# Altium integrated library Altium_WCAP-ASLI (rev22d).IntLib: 142 symbols (part 2 of 3)
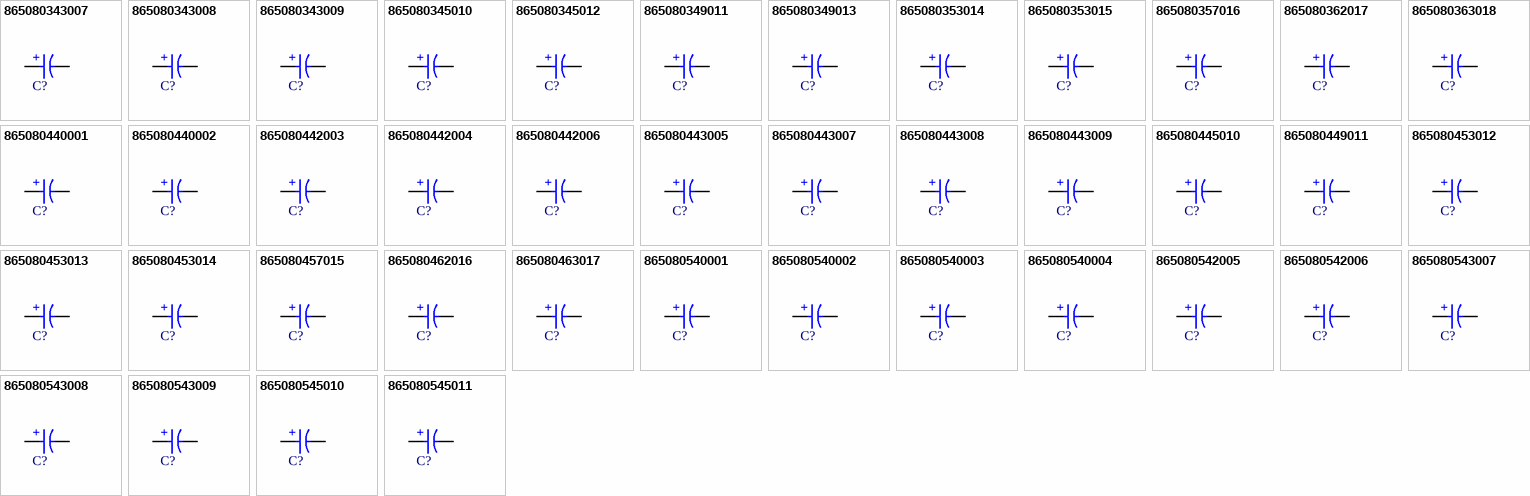
[diagram p4: symbols 865080343007 to 865080545011]

## 865080363018
designator C?, comment 3300uF  (value not drawn)
WCAP-ASLI Aluminum Electrolytic Capacitor, V-Chip, D16 x H17mm, 3300uF, 16V; Manufacturer Part Number: 865080363018; Manufacturer: Wurth Elektronik; Capacitance Tolerance: +/-20%; Dissipation Factor: 20%; Endurance: 5000h; Leakage Current: 528uA; Ripple Current: 1250mA; Technical Reference: ASEK170332M016DVCTHE000; Category: Aluminum Electrolytic Capacitors; Match Code: WCAP-ASLI; ComponentLink1Description: Website Link; ComponentLink1URL: https://www.we-online.com/redexpert/article/865080363018?ad; ComponentLink2Description: Datasheet Link; ComponentLink2URL: https://www.we-online.com/redexpert/spec/865080363018?ad; Mount: Surface Mount; Operating Temperature Max: 105°C; Operating Temperature Min: -55°C; Packaging: Tape and Reel; Height: 17mm; Diameter: 16mm; Capacitance: 3300uF; Rated Voltage (DC): 16V
footprint WCAP-ASLI_D16H17
simulation model 865080363018_3.3mF
pins: 1 P, 2 N
text: +

## 865080440001
designator C?, comment 6.8uF  (value not drawn)
WCAP-ASLI Aluminum Electrolytic Capacitor, V-Chip, D4 x H5.5mm, 6.8uF, 25V; Manufacturer Part Number: 865080440001; Manufacturer: Wurth Elektronik; Capacitance Tolerance: +/-20%; Dissipation Factor: 14%; Endurance: 2000h; Leakage Current: 3uA; Ripple Current: 70mA; Technical Reference: ASEB0556R8M025DVCTAB000; Category: Aluminum Electrolytic Capacitors; Match Code: WCAP-ASLI; ComponentLink1Description: Website Link; ComponentLink1URL: https://www.we-online.com/redexpert/article/865080440001?ad; ComponentLink2Description: Datasheet Link; ComponentLink2URL: https://www.we-online.com/redexpert/spec/865080440001?ad; Mount: Surface Mount; Operating Temperature Max: 105°C; Operating Temperature Min: -55°C; Packaging: Tape and Reel; Height: 5.5mm; Diameter: 4mm; Capacitance: 6.8uF; Rated Voltage (DC): 25V
footprint WCAP-ASLI_D4H5.5
simulation model 865080440001_6.8uF
pins: 1 P, 2 N
text: +

## 865080440002
designator C?, comment 10uF  (value not drawn)
WCAP-ASLI Aluminum Electrolytic Capacitor, V-Chip, D4 x H5.5mm, 10uF, 25V; Manufacturer Part Number: 865080440002; Manufacturer: Wurth Elektronik; Capacitance Tolerance: +/-20%; Dissipation Factor: 14%; Endurance: 2000h; Leakage Current: 3uA; Ripple Current: 85mA; Technical Reference: ASEB055100M025DVCTAB000; Category: Aluminum Electrolytic Capacitors; Match Code: WCAP-ASLI; ComponentLink1Description: Website Link; ComponentLink1URL: https://www.we-online.com/redexpert/article/865080440002?ad; ComponentLink2Description: Datasheet Link; ComponentLink2URL: https://www.we-online.com/redexpert/spec/865080440002?ad; Mount: Surface Mount; Operating Temperature Max: 105°C; Operating Temperature Min: -55°C; Packaging: Tape and Reel; Height: 5.5mm; Diameter: 4mm; Capacitance: 10uF; Rated Voltage (DC): 25V
footprint WCAP-ASLI_D4H5.5
simulation model 865080440002_10uF
pins: 1 P, 2 N
text: +

## 865080442003
designator C?, comment 15uF  (value not drawn)
WCAP-ASLI Aluminum Electrolytic Capacitor, V-Chip, D5 x H5.5mm, 15uF, 25V; Manufacturer Part Number: 865080442003; Manufacturer: Wurth Elektronik; Capacitance Tolerance: +/-20%; Dissipation Factor: 14%; Endurance: 2000h; Leakage Current: 3.75uA; Ripple Current: 125mA; Technical Reference: ASEC055150M025DVCTBB000; Category: Aluminum Electrolytic Capacitors; Match Code: WCAP-ASLI; ComponentLink1Description: Website Link; ComponentLink1URL: https://www.we-online.com/redexpert/article/865080442003?ad; ComponentLink2Description: Datasheet Link; ComponentLink2URL: https://www.we-online.com/redexpert/spec/865080442003?ad; Mount: Surface Mount; Operating Temperature Max: 105°C; Operating Temperature Min: -55°C; Packaging: Tape and Reel; Height: 5.5mm; Diameter: 5mm; Capacitance: 15uF; Rated Voltage (DC): 25V
footprint WCAP-ASLI_D5H5.5
simulation model 865080442003_15uF
pins: 1 P, 2 N
text: +

## 865080442004
designator C?, comment 22uF  (value not drawn)
WCAP-ASLI Aluminum Electrolytic Capacitor, V-Chip, D5 x H5.5mm, 22uF, 25V; Manufacturer Part Number: 865080442004; Manufacturer: Wurth Elektronik; Capacitance Tolerance: +/-20%; Dissipation Factor: 14%; Endurance: 2000h; Leakage Current: 5.5uA; Ripple Current: 145mA; Technical Reference: ASEC055220M025DVCTBB000; Category: Aluminum Electrolytic Capacitors; Match Code: WCAP-ASLI; ComponentLink1Description: Website Link; ComponentLink1URL: https://www.we-online.com/redexpert/article/865080442004?ad; ComponentLink2Description: Datasheet Link; ComponentLink2URL: https://www.we-online.com/redexpert/spec/865080442004?ad; Mount: Surface Mount; Operating Temperature Max: 105°C; Operating Temperature Min: -55°C; Packaging: Tape and Reel; Height: 5.5mm; Diameter: 5mm; Capacitance: 22uF; Rated Voltage (DC): 25V
footprint WCAP-ASLI_D5H5.5
simulation model 865080442004_22uF
pins: 1 P, 2 N
text: +

## 865080442006
designator C?, comment 33uF  (value not drawn)
WCAP-ASLI Aluminum Electrolytic Capacitor, V-Chip, D5 x H5.5mm, 33uF, 25V; Manufacturer Part Number: 865080442006; Manufacturer: Wurth Elektronik; Capacitance Tolerance: +/-20%; Dissipation Factor: 14%; Endurance: 2000h; Leakage Current: 8.25uA; Ripple Current: 160mA; Technical Reference: ASEC055330M025DVCTBB000; Category: Aluminum Electrolytic Capacitors; Match Code: WCAP-ASLI; ComponentLink1Description: Website Link; ComponentLink1URL: https://www.we-online.com/redexpert/article/865080442006?ad; ComponentLink2Description: Datasheet Link; ComponentLink2URL: https://www.we-online.com/redexpert/spec/865080442006?ad; Mount: Surface Mount; Operating Temperature Max: 105°C; Operating Temperature Min: -55°C; Packaging: Tape and Reel; Height: 5.5mm; Diameter: 5mm; Capacitance: 33uF; Rated Voltage (DC): 25V
footprint WCAP-ASLI_D5H5.5
simulation model 865080442006_33uF
pins: 1 P, 2 N
text: +

## 865080443005
designator C?, comment 27uF  (value not drawn)
WCAP-ASLI Aluminum Electrolytic Capacitor, V-Chip, D6.3 x H5.5mm, 27uF, 25V; Manufacturer Part Number: 865080443005; Manufacturer: Wurth Elektronik; Capacitance Tolerance: +/-20%; Dissipation Factor: 14%; Endurance: 2000h; Leakage Current: 6.75uA; Ripple Current: 200mA; Technical Reference: ASED055270M025DVCTBB000; Category: Aluminum Electrolytic Capacitors; Match Code: WCAP-ASLI; ComponentLink1Description: Website Link; ComponentLink1URL: https://www.we-online.com/redexpert/article/865080443005?ad; ComponentLink2Description: Datasheet Link; ComponentLink2URL: https://www.we-online.com/redexpert/spec/865080443005?ad; Mount: Surface Mount; Operating Temperature Max: 105°C; Operating Temperature Min: -55°C; Packaging: Tape and Reel; Height: 5.5mm; Diameter: 6.3mm; Capacitance: 27uF; Rated Voltage (DC): 25V
footprint WCAP-ASLI_D6.3H5.5
simulation model 865080443005_27uF
pins: 1 P, 2 N
text: +

## 865080443007
designator C?, comment 47uF  (value not drawn)
WCAP-ASLI Aluminum Electrolytic Capacitor, V-Chip, D6.3 x H5.5mm, 47uF, 25V; Manufacturer Part Number: 865080443007; Manufacturer: Wurth Elektronik; Capacitance Tolerance: +/-20%; Dissipation Factor: 14%; Endurance: 2000h; Leakage Current: 11.75uA; Ripple Current: 220mA; Technical Reference: ASED055470M025DVCTBB000; Category: Aluminum Electrolytic Capacitors; Match Code: WCAP-ASLI; ComponentLink1Description: Website Link; ComponentLink1URL: https://www.we-online.com/redexpert/article/865080443007?ad; ComponentLink2Description: Datasheet Link; ComponentLink2URL: https://www.we-online.com/redexpert/spec/865080443007?ad; Mount: Surface Mount; Operating Temperature Max: 105°C; Operating Temperature Min: -55°C; Packaging: Tape and Reel; Height: 5.5mm; Diameter: 6.3mm; Capacitance: 47uF; Rated Voltage (DC): 25V
footprint WCAP-ASLI_D6.3H5.5
simulation model 865080443007_47uF
pins: 1 P, 2 N
text: +

## 865080443008
designator C?, comment 56uF  (value not drawn)
WCAP-ASLI Aluminum Electrolytic Capacitor, V-Chip, D6.3 x H5.5mm, 56uF, 25V; Manufacturer Part Number: 865080443008; Manufacturer: Wurth Elektronik; Capacitance Tolerance: +/-20%; Dissipation Factor: 14%; Endurance: 2000h; Leakage Current: 14uA; Ripple Current: 230mA; Technical Reference: ASED055560M025DVCTBB000; Category: Aluminum Electrolytic Capacitors; Match Code: WCAP-ASLI; ComponentLink1Description: Website Link; ComponentLink1URL: https://www.we-online.com/redexpert/article/865080443008?ad; ComponentLink2Description: Datasheet Link; ComponentLink2URL: https://www.we-online.com/redexpert/spec/865080443008?ad; Mount: Surface Mount; Operating Temperature Max: 105°C; Operating Temperature Min: -55°C; Packaging: Tape and Reel; Height: 5.5mm; Diameter: 6.3mm; Capacitance: 56uF; Rated Voltage (DC): 25V
footprint WCAP-ASLI_D6.3H5.5
simulation model 865080443008_56uF
pins: 1 P, 2 N
text: +

## 865080443009
designator C?, comment 68uF  (value not drawn)
WCAP-ASLI Aluminum Electrolytic Capacitor, V-Chip, D6.3 x H5.5mm, 68uF, 25V; Manufacturer Part Number: 865080443009; Manufacturer: Wurth Elektronik; Capacitance Tolerance: +/-20%; Dissipation Factor: 14%; Endurance: 2000h; Leakage Current: 17uA; Ripple Current: 240mA; Technical Reference: ASED055680M025DVCTBB000; Category: Aluminum Electrolytic Capacitors; Match Code: WCAP-ASLI; ComponentLink1Description: Website Link; ComponentLink1URL: https://www.we-online.com/redexpert/article/865080443009?ad; ComponentLink2Description: Datasheet Link; ComponentLink2URL: https://www.we-online.com/redexpert/spec/865080443009?ad; Mount: Surface Mount; Operating Temperature Max: 105°C; Operating Temperature Min: -55°C; Packaging: Tape and Reel; Height: 5.5mm; Diameter: 6.3mm; Capacitance: 68uF; Rated Voltage (DC): 25V
footprint WCAP-ASLI_D6.3H5.5
simulation model 865080443009_68uF
pins: 1 P, 2 N
text: +

## 865080445010
designator C?, comment 100uF  (value not drawn)
WCAP-ASLI Aluminum Electrolytic Capacitor, V-Chip, D6.3 x H7.7mm, 100uF, 25V; Manufacturer Part Number: 865080445010; Manufacturer: Wurth Elektronik; Capacitance Tolerance: +/-20%; Dissipation Factor: 14%; Endurance: 2000h; Leakage Current: 25uA; Ripple Current: 290mA; Technical Reference: ASED077101M025DVCTCB000; Category: Aluminum Electrolytic Capacitors; Match Code: WCAP-ASLI; ComponentLink1Description: Website Link; ComponentLink1URL: https://www.we-online.com/redexpert/article/865080445010?ad; ComponentLink2Description: Datasheet Link; ComponentLink2URL: https://www.we-online.com/redexpert/spec/865080445010?ad; Mount: Surface Mount; Operating Temperature Max: 105°C; Operating Temperature Min: -55°C; Packaging: Tape and Reel; Height: 7.7mm; Diameter: 6.3mm; Capacitance: 100uF; Rated Voltage (DC): 25V
footprint WCAP-ASLI_D6.3H7.7
simulation model 865080445010_100uF
pins: 1 P, 2 N
text: +

## 865080449011
designator C?, comment 100uF  (value not drawn)
WCAP-ASLI Aluminum Electrolytic Capacitor, V-Chip, D8 x H6.5mm, 100uF, 25V; Manufacturer Part Number: 865080449011; Manufacturer: Wurth Elektronik; Capacitance Tolerance: +/-20%; Dissipation Factor: 14%; Endurance: 2000h; Leakage Current: 25uA; Ripple Current: 300mA; Technical Reference: ASEE065101M025DVCTBB000; Category: Aluminum Electrolytic Capacitors; Match Code: WCAP-ASLI; ComponentLink1Description: Website Link; ComponentLink1URL: https://www.we-online.com/redexpert/article/865080449011?ad; ComponentLink2Description: Datasheet Link; ComponentLink2URL: https://www.we-online.com/redexpert/spec/865080449011?ad; Mount: Surface Mount; Operating Temperature Max: 105°C; Operating Temperature Min: -55°C; Packaging: Tape and Reel; Height: 6.5mm; Diameter: 8mm; Capacitance: 100uF; Rated Voltage (DC): 25V
footprint WCAP-ASLI_D8H6.5
simulation model 865080449011_100uF
pins: 1 P, 2 N
text: +

## 865080453012
designator C?, comment 150uF  (value not drawn)
WCAP-ASLI Aluminum Electrolytic Capacitor, V-Chip, D8 x H10.5mm, 150uF, 25V; Manufacturer Part Number: 865080453012; Manufacturer: Wurth Elektronik; Capacitance Tolerance: +/-20%; Dissipation Factor: 14%; Endurance: 2000h; Leakage Current: 37.5uA; Ripple Current: 480mA; Technical Reference: ASEE105151M025DVCTEB000; Category: Aluminum Electrolytic Capacitors; Match Code: WCAP-ASLI; ComponentLink1Description: Website Link; ComponentLink1URL: https://www.we-online.com/redexpert/article/865080453012?ad; ComponentLink2Description: Datasheet Link; ComponentLink2URL: https://www.we-online.com/redexpert/spec/865080453012?ad; Mount: Surface Mount; Operating Temperature Max: 105°C; Operating Temperature Min: -55°C; Packaging: Tape and Reel; Height: 10.5mm; Diameter: 8mm; Capacitance: 150uF; Rated Voltage (DC): 25V
footprint WCAP-ASLI_D8H10.5
simulation model 865080453012_150uF
pins: 1 P, 2 N
text: +

## 865080453013
designator C?, comment 220uF  (value not drawn)
WCAP-ASLI Aluminum Electrolytic Capacitor, V-Chip, D8 x H10.5mm, 220uF, 25V; Manufacturer Part Number: 865080453013; Manufacturer: Wurth Elektronik; Capacitance Tolerance: +/-20%; Dissipation Factor: 14%; Endurance: 2000h; Leakage Current: 55uA; Ripple Current: 530mA; Technical Reference: ASEE105221M025DVCTEB000; Category: Aluminum Electrolytic Capacitors; Match Code: WCAP-ASLI; ComponentLink1Description: Website Link; ComponentLink1URL: https://www.we-online.com/redexpert/article/865080453013?ad; ComponentLink2Description: Datasheet Link; ComponentLink2URL: https://www.we-online.com/redexpert/spec/865080453013?ad; Mount: Surface Mount; Operating Temperature Max: 105°C; Operating Temperature Min: -55°C; Packaging: Tape and Reel; Height: 10.5mm; Diameter: 8mm; Capacitance: 220uF; Rated Voltage (DC): 25V
footprint WCAP-ASLI_D8H10.5
simulation model 865080453013_220uF
pins: 1 P, 2 N
text: +

## 865080453014
designator C?, comment 330uF  (value not drawn)
WCAP-ASLI Aluminum Electrolytic Capacitor, V-Chip, D8 x H10.5mm, 330uF, 25V; Manufacturer Part Number: 865080453014; Manufacturer: Wurth Elektronik; Capacitance Tolerance: +/-20%; Dissipation Factor: 14%; Endurance: 2000h; Leakage Current: 82.5uA; Ripple Current: 570mA; Technical Reference: ASEE105331M025DVCTEB000; Category: Aluminum Electrolytic Capacitors; Match Code: WCAP-ASLI; ComponentLink1Description: Website Link; ComponentLink1URL: https://www.we-online.com/redexpert/article/865080453014?ad; ComponentLink2Description: Datasheet Link; ComponentLink2URL: https://www.we-online.com/redexpert/spec/865080453014?ad; Mount: Surface Mount; Operating Temperature Max: 105°C; Operating Temperature Min: -55°C; Packaging: Tape and Reel; Height: 10.5mm; Diameter: 8mm; Capacitance: 330uF; Rated Voltage (DC): 25V
footprint WCAP-ASLI_D8H10.5
simulation model 865080453014_330uF
pins: 1 P, 2 N
text: +

## 865080457015
designator C?, comment 470uF  (value not drawn)
WCAP-ASLI Aluminum Electrolytic Capacitor, V-Chip, D10 x H10.5mm, 470uF, 25V; Manufacturer Part Number: 865080457015; Manufacturer: Wurth Elektronik; Capacitance Tolerance: +/-20%; Dissipation Factor: 14%; Endurance: 2000h; Leakage Current: 117.5uA; Ripple Current: 650mA; Technical Reference: ASEF105471M025DVCTEB000; Category: Aluminum Electrolytic Capacitors; Match Code: WCAP-ASLI; ComponentLink1Description: Website Link; ComponentLink1URL: https://www.we-online.com/redexpert/article/865080457015?ad; ComponentLink2Description: Datasheet Link; ComponentLink2URL: https://www.we-online.com/redexpert/spec/865080457015?ad; Mount: Surface Mount; Operating Temperature Max: 105°C; Operating Temperature Min: -55°C; Packaging: Tape and Reel; Height: 10.5mm; Diameter: 10mm; Capacitance: 470uF; Rated Voltage (DC): 25V
footprint WCAP-ASLI_D10H10.5
simulation model 865080457015_470uF
pins: 1 P, 2 N
text: +

## 865080462016
designator C?, comment 1000uF  (value not drawn)
WCAP-ASLI Aluminum Electrolytic Capacitor, V-Chip, D12.5 x H14mm, 1000uF, 25V; Manufacturer Part Number: 865080462016; Manufacturer: Wurth Elektronik; Capacitance Tolerance: +/-20%; Dissipation Factor: 14%; Endurance: 5000h; Leakage Current: 250uA; Ripple Current: 1100mA; Technical Reference: ASEH140102M025DVCTGE000; Category: Aluminum Electrolytic Capacitors; Match Code: WCAP-ASLI; ComponentLink1Description: Website Link; ComponentLink1URL: https://www.we-online.com/redexpert/article/865080462016?ad; ComponentLink2Description: Datasheet Link; ComponentLink2URL: https://www.we-online.com/redexpert/spec/865080462016?ad; Mount: Surface Mount; Operating Temperature Max: 105°C; Operating Temperature Min: -55°C; Packaging: Tape and Reel; Height: 14mm; Diameter: 12.5mm; Capacitance: 1000uF; Rated Voltage (DC): 25V
footprint WCAP-ASLI_D12.5H14
simulation model 865080462016_1mF
pins: 1 P, 2 N
text: +

## 865080463017
designator C?, comment 2200uF  (value not drawn)
WCAP-ASLI Aluminum Electrolytic Capacitor, V-Chip, D16 x H17mm, 2200uF, 25V; Manufacturer Part Number: 865080463017; Manufacturer: Wurth Elektronik; Capacitance Tolerance: +/-20%; Dissipation Factor: 16%; Endurance: 5000h; Leakage Current: 550uA; Ripple Current: 1250mA; Technical Reference: ASEK170222M025DVCTHE000; Category: Aluminum Electrolytic Capacitors; Match Code: WCAP-ASLI; ComponentLink1Description: Website Link; ComponentLink1URL: https://www.we-online.com/redexpert/article/865080463017?ad; ComponentLink2Description: Datasheet Link; ComponentLink2URL: https://www.we-online.com/redexpert/spec/865080463017?ad; Mount: Surface Mount; Operating Temperature Max: 105°C; Operating Temperature Min: -55°C; Packaging: Tape and Reel; Height: 17mm; Diameter: 16mm; Capacitance: 2200uF; Rated Voltage (DC): 25V
footprint WCAP-ASLI_D16H17
simulation model 865080463017_2.2mF
pins: 1 P, 2 N
text: +

## 865080540001
designator C?, comment 3.3uF  (value not drawn)
WCAP-ASLI Aluminum Electrolytic Capacitor, V-Chip, D4 x H5.5mm, 3.3uF, 35V; Manufacturer Part Number: 865080540001; Manufacturer: Wurth Elektronik; Capacitance Tolerance: +/-20%; Dissipation Factor: 14%; Endurance: 2000h; Leakage Current: 3uA; Ripple Current: 80mA; Technical Reference: ASEB0553R3M035DVCTAB000; Category: Aluminum Electrolytic Capacitors; Match Code: WCAP-ASLI; ComponentLink1Description: Website Link; ComponentLink1URL: https://www.we-online.com/redexpert/article/865080540001?ad; ComponentLink2Description: Datasheet Link; ComponentLink2URL: https://www.we-online.com/redexpert/spec/865080540001?ad; Mount: Surface Mount; Operating Temperature Max: 105°C; Operating Temperature Min: -55°C; Packaging: Tape and Reel; Height: 5.5mm; Diameter: 4mm; Capacitance: 3.3uF; Rated Voltage (DC): 35V
footprint WCAP-ASLI_D4H5.5
simulation model 865080540001_3.3uF
pins: 1 P, 2 N
text: +

## 865080540002
designator C?, comment 4.7uF  (value not drawn)
WCAP-ASLI Aluminum Electrolytic Capacitor, V-Chip, D4 x H5.5mm, 4.7uF, 35V; Manufacturer Part Number: 865080540002; Manufacturer: Wurth Elektronik; Capacitance Tolerance: +/-20%; Dissipation Factor: 14%; Endurance: 2000h; Leakage Current: 3uA; Ripple Current: 85mA; Technical Reference: ASEB0554R7M035DVCTAB000; Category: Aluminum Electrolytic Capacitors; Match Code: WCAP-ASLI; ComponentLink1Description: Website Link; ComponentLink1URL: https://www.we-online.com/redexpert/article/865080540002?ad; ComponentLink2Description: Datasheet Link; ComponentLink2URL: https://www.we-online.com/redexpert/spec/865080540002?ad; Mount: Surface Mount; Operating Temperature Max: 105°C; Operating Temperature Min: -55°C; Packaging: Tape and Reel; Height: 5.5mm; Diameter: 4mm; Capacitance: 4.7uF; Rated Voltage (DC): 35V
footprint WCAP-ASLI_D4H5.5
simulation model 865080540002_4.7uF
pins: 1 P, 2 N
text: +

## 865080540003
designator C?, comment 6.8uF  (value not drawn)
WCAP-ASLI Aluminum Electrolytic Capacitor, V-Chip, D4 x H5.5mm, 6.8uF, 35V; Manufacturer Part Number: 865080540003; Manufacturer: Wurth Elektronik; Capacitance Tolerance: +/-20%; Dissipation Factor: 14%; Endurance: 2000h; Leakage Current: 3uA; Ripple Current: 88mA; Technical Reference: ASEB0556R8M035DVCTAB000; Category: Aluminum Electrolytic Capacitors; Match Code: WCAP-ASLI; ComponentLink1Description: Website Link; ComponentLink1URL: https://www.we-online.com/redexpert/article/865080540003?ad; ComponentLink2Description: Datasheet Link; ComponentLink2URL: https://www.we-online.com/redexpert/spec/865080540003?ad; Mount: Surface Mount; Operating Temperature Max: 105°C; Operating Temperature Min: -55°C; Packaging: Tape and Reel; Height: 5.5mm; Diameter: 4mm; Capacitance: 6.8uF; Rated Voltage (DC): 35V
footprint WCAP-ASLI_D4H5.5
simulation model 865080540003_6.8uF
pins: 1 P, 2 N
text: +

## 865080540004
designator C?, comment 10uF  (value not drawn)
WCAP-ASLI Aluminum Electrolytic Capacitor, V-Chip, D4 x H5.5mm, 10uF, 35V; Manufacturer Part Number: 865080540004; Manufacturer: Wurth Elektronik; Capacitance Tolerance: +/-20%; Dissipation Factor: 14%; Endurance: 2000h; Leakage Current: 3.5uA; Ripple Current: 90mA; Technical Reference: ASEB055100M035DVCTAB000; Category: Aluminum Electrolytic Capacitors; Match Code: WCAP-ASLI; ComponentLink1Description: Website Link; ComponentLink1URL: https://www.we-online.com/redexpert/article/865080540004?ad; ComponentLink2Description: Datasheet Link; ComponentLink2URL: https://www.we-online.com/redexpert/spec/865080540004?ad; Mount: Surface Mount; Operating Temperature Max: 105°C; Operating Temperature Min: -55°C; Packaging: Tape and Reel; Height: 5.5mm; Diameter: 4mm; Capacitance: 10uF; Rated Voltage (DC): 35V
footprint WCAP-ASLI_D4H5.5
simulation model 865080540004_10uF
pins: 1 P, 2 N
text: +

## 865080542005
designator C?, comment 15uF  (value not drawn)
WCAP-ASLI Aluminum Electrolytic Capacitor, V-Chip, D5 x H5.5mm, 15uF, 35V; Manufacturer Part Number: 865080542005; Manufacturer: Wurth Elektronik; Capacitance Tolerance: +/-20%; Dissipation Factor: 14%; Endurance: 2000h; Leakage Current: 5.25uA; Ripple Current: 140mA; Technical Reference: ASEC055150M035DVCTBB000; Category: Aluminum Electrolytic Capacitors; Match Code: WCAP-ASLI; ComponentLink1Description: Website Link; ComponentLink1URL: https://www.we-online.com/redexpert/article/865080542005?ad; ComponentLink2Description: Datasheet Link; ComponentLink2URL: https://www.we-online.com/redexpert/spec/865080542005?ad; Mount: Surface Mount; Operating Temperature Max: 105°C; Operating Temperature Min: -55°C; Packaging: Tape and Reel; Height: 5.5mm; Diameter: 5mm; Capacitance: 15uF; Rated Voltage (DC): 35V
footprint WCAP-ASLI_D5H5.5
simulation model 865080542005_15uF
pins: 1 P, 2 N
text: +

## 865080542006
designator C?, comment 22uF  (value not drawn)
WCAP-ASLI Aluminum Electrolytic Capacitor, V-Chip, D5 x H5.5mm, 22uF, 35V; Manufacturer Part Number: 865080542006; Manufacturer: Wurth Elektronik; Capacitance Tolerance: +/-20%; Dissipation Factor: 14%; Endurance: 2000h; Leakage Current: 7.7uA; Ripple Current: 155mA; Technical Reference: ASEC055220M035DVCTBB000; Category: Aluminum Electrolytic Capacitors; Match Code: WCAP-ASLI; ComponentLink1Description: Website Link; ComponentLink1URL: https://www.we-online.com/redexpert/article/865080542006?ad; ComponentLink2Description: Datasheet Link; ComponentLink2URL: https://www.we-online.com/redexpert/spec/865080542006?ad; Mount: Surface Mount; Operating Temperature Max: 105°C; Operating Temperature Min: -55°C; Packaging: Tape and Reel; Height: 5.5mm; Diameter: 5mm; Capacitance: 22uF; Rated Voltage (DC): 35V
footprint WCAP-ASLI_D5H5.5
simulation model 865080542006_22uF
pins: 1 P, 2 N
text: +

## 865080543007
designator C?, comment 27uF  (value not drawn)
WCAP-ASLI Aluminum Electrolytic Capacitor, V-Chip, D6.3 x H5.5mm, 27uF, 35V; Manufacturer Part Number: 865080543007; Manufacturer: Wurth Elektronik; Capacitance Tolerance: +/-20%; Dissipation Factor: 14%; Endurance: 2000h; Leakage Current: 9.45uA; Ripple Current: 210mA; Technical Reference: ASED055270M035DVCTBB000; Category: Aluminum Electrolytic Capacitors; Match Code: WCAP-ASLI; ComponentLink1Description: Website Link; ComponentLink1URL: https://www.we-online.com/redexpert/article/865080543007?ad; ComponentLink2Description: Datasheet Link; ComponentLink2URL: https://www.we-online.com/redexpert/spec/865080543007?ad; Mount: Surface Mount; Operating Temperature Max: 105°C; Operating Temperature Min: -55°C; Packaging: Tape and Reel; Height: 5.5mm; Diameter: 6.3mm; Capacitance: 27uF; Rated Voltage (DC): 35V
footprint WCAP-ASLI_D6.3H5.5
simulation model 865080543007_27uF
pins: 1 P, 2 N
text: +

## 865080543008
designator C?, comment 33uF  (value not drawn)
WCAP-ASLI Aluminum Electrolytic Capacitor, V-Chip, D6.3 x H5.5mm, 33uF, 35V; Manufacturer Part Number: 865080543008; Manufacturer: Wurth Elektronik; Capacitance Tolerance: +/-20%; Dissipation Factor: 14%; Endurance: 2000h; Leakage Current: 11.55uA; Ripple Current: 230mA; Technical Reference: ASED055330M035DVCTBB000; Category: Aluminum Electrolytic Capacitors; Match Code: WCAP-ASLI; ComponentLink1Description: Website Link; ComponentLink1URL: https://www.we-online.com/redexpert/article/865080543008?ad; ComponentLink2Description: Datasheet Link; ComponentLink2URL: https://www.we-online.com/redexpert/spec/865080543008?ad; Mount: Surface Mount; Operating Temperature Max: 105°C; Operating Temperature Min: -55°C; Packaging: Tape and Reel; Height: 5.5mm; Diameter: 6.3mm; Capacitance: 33uF; Rated Voltage (DC): 35V
footprint WCAP-ASLI_D6.3H5.5
simulation model 865080543008_33uF
pins: 1 P, 2 N
text: +

## 865080543009
designator C?, comment 47uF  (value not drawn)
WCAP-ASLI Aluminum Electrolytic Capacitor, V-Chip, D6.3 x H5.5mm, 47uF, 35V; Manufacturer Part Number: 865080543009; Manufacturer: Wurth Elektronik; Capacitance Tolerance: +/-20%; Dissipation Factor: 14%; Endurance: 2000h; Leakage Current: 16.45uA; Ripple Current: 240mA; Technical Reference: ASED055470M035DVCTBB000; Category: Aluminum Electrolytic Capacitors; Match Code: WCAP-ASLI; ComponentLink1Description: Website Link; ComponentLink1URL: https://www.we-online.com/redexpert/article/865080543009?ad; ComponentLink2Description: Datasheet Link; ComponentLink2URL: https://www.we-online.com/redexpert/spec/865080543009?ad; Mount: Surface Mount; Operating Temperature Max: 105°C; Operating Temperature Min: -55°C; Packaging: Tape and Reel; Height: 5.5mm; Diameter: 6.3mm; Capacitance: 47uF; Rated Voltage (DC): 35V
footprint WCAP-ASLI_D6.3H5.5
simulation model 865080543009_47uF
pins: 1 P, 2 N
text: +

## 865080545010
designator C?, comment 56uF  (value not drawn)
WCAP-ASLI Aluminum Electrolytic Capacitor, V-Chip, D6.3 x H7.7mm, 56uF, 35V; Manufacturer Part Number: 865080545010; Manufacturer: Wurth Elektronik; Capacitance Tolerance: +/-20%; Dissipation Factor: 14%; Endurance: 2000h; Leakage Current: 19.6uA; Ripple Current: 250mA; Technical Reference: ASED077560M035DVCTCB000; Category: Aluminum Electrolytic Capacitors; Match Code: WCAP-ASLI; ComponentLink1Description: Website Link; ComponentLink1URL: https://www.we-online.com/redexpert/article/865080545010?ad; ComponentLink2Description: Datasheet Link; ComponentLink2URL: https://www.we-online.com/redexpert/spec/865080545010?ad; Mount: Surface Mount; Operating Temperature Max: 105°C; Operating Temperature Min: -55°C; Packaging: Tape and Reel; Height: 7.7mm; Diameter: 6.3mm; Capacitance: 56uF; Rated Voltage (DC): 35V
footprint WCAP-ASLI_D6.3H7.7
simulation model 865080545010_56uF
pins: 1 P, 2 N
text: +

## 865080545011
designator C?, comment 68uF  (value not drawn)
WCAP-ASLI Aluminum Electrolytic Capacitor, V-Chip, D6.3 x H7.7mm, 68uF, 35V; Manufacturer Part Number: 865080545011; Manufacturer: Wurth Elektronik; Capacitance Tolerance: +/-20%; Dissipation Factor: 14%; Endurance: 2000h; Leakage Current: 23.8uA; Ripple Current: 265mA; Technical Reference: ASED077680M035DVCTCB000; Category: Aluminum Electrolytic Capacitors; Match Code: WCAP-ASLI; ComponentLink1Description: Website Link; ComponentLink1URL: https://www.we-online.com/redexpert/article/865080545011?ad; ComponentLink2Description: Datasheet Link; ComponentLink2URL: https://www.we-online.com/redexpert/spec/865080545011?ad; Mount: Surface Mount; Operating Temperature Max: 105°C; Operating Temperature Min: -55°C; Packaging: Tape and Reel; Height: 7.7mm; Diameter: 6.3mm; Capacitance: 68uF; Rated Voltage (DC): 35V
footprint WCAP-ASLI_D6.3H7.7
simulation model 865080545011_68uF
pins: 1 P, 2 N
text: +

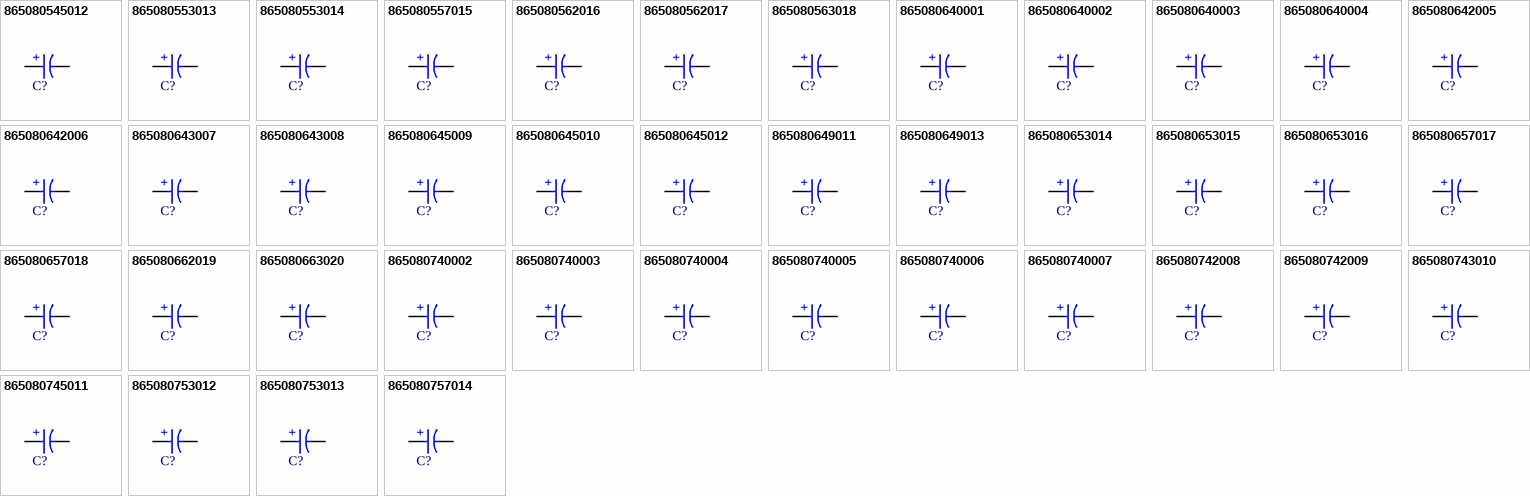
[diagram p2: symbols 865080545012 to 865080757014]

## 865080545012
designator C?, comment 100uF  (value not drawn)
WCAP-ASLI Aluminum Electrolytic Capacitor, V-Chip, D6.3 x H7.7mm, 100uF, 35V; Manufacturer Part Number: 865080545012; Manufacturer: Wurth Elektronik; Capacitance Tolerance: +/-20%; Dissipation Factor: 14%; Endurance: 2000h; Leakage Current: 35uA; Ripple Current: 300mA; Technical Reference: ASED077101M035DVCTCB000; Category: Aluminum Electrolytic Capacitors; Match Code: WCAP-ASLI; ComponentLink1Description: Website Link; ComponentLink1URL: https://www.we-online.com/redexpert/article/865080545012?ad; ComponentLink2Description: Datasheet Link; ComponentLink2URL: https://www.we-online.com/redexpert/spec/865080545012?ad; Mount: Surface Mount; Operating Temperature Max: 105°C; Operating Temperature Min: -55°C; Packaging: Tape and Reel; Height: 7.7mm; Diameter: 6.3mm; Capacitance: 100uF; Rated Voltage (DC): 35V
footprint WCAP-ASLI_D6.3H7.7
simulation model 865080545012_100uF
pins: 1 P, 2 N
text: +

## 865080553013
designator C?, comment 150uF  (value not drawn)
WCAP-ASLI Aluminum Electrolytic Capacitor, V-Chip, D8 x H10.5mm, 150uF, 35V; Manufacturer Part Number: 865080553013; Manufacturer: Wurth Elektronik; Capacitance Tolerance: +/-20%; Dissipation Factor: 14%; Endurance: 2000h; Leakage Current: 52.5uA; Ripple Current: 510mA; Technical Reference: ASEE105151M035DVCTEB000; Category: Aluminum Electrolytic Capacitors; Match Code: WCAP-ASLI; ComponentLink1Description: Website Link; ComponentLink1URL: https://www.we-online.com/redexpert/article/865080553013?ad; ComponentLink2Description: Datasheet Link; ComponentLink2URL: https://www.we-online.com/redexpert/spec/865080553013?ad; Mount: Surface Mount; Operating Temperature Max: 105°C; Operating Temperature Min: -55°C; Packaging: Tape and Reel; Height: 10.5mm; Diameter: 8mm; Capacitance: 150uF; Rated Voltage (DC): 35V
footprint WCAP-ASLI_D8H10.5
simulation model 865080553013_150uF
pins: 1 P, 2 N
text: +

## 865080553014
designator C?, comment 220uF  (value not drawn)
WCAP-ASLI Aluminum Electrolytic Capacitor, V-Chip, D8 x H10.5mm, 220uF, 35V; Manufacturer Part Number: 865080553014; Manufacturer: Wurth Elektronik; Capacitance Tolerance: +/-20%; Dissipation Factor: 14%; Endurance: 2000h; Leakage Current: 77uA; Ripple Current: 570mA; Technical Reference: ASEE105221M035DVCTEB000; Category: Aluminum Electrolytic Capacitors; Match Code: WCAP-ASLI; ComponentLink1Description: Website Link; ComponentLink1URL: https://www.we-online.com/redexpert/article/865080553014?ad; ComponentLink2Description: Datasheet Link; ComponentLink2URL: https://www.we-online.com/redexpert/spec/865080553014?ad; Mount: Surface Mount; Operating Temperature Max: 105°C; Operating Temperature Min: -55°C; Packaging: Tape and Reel; Height: 10.5mm; Diameter: 8mm; Capacitance: 220uF; Rated Voltage (DC): 35V
footprint WCAP-ASLI_D8H10.5
simulation model 865080553014_220uF
pins: 1 P, 2 N
text: +

## 865080557015
designator C?, comment 330uF  (value not drawn)
WCAP-ASLI Aluminum Electrolytic Capacitor, V-Chip, D10 x H10.5mm, 330uF, 35V; Manufacturer Part Number: 865080557015; Manufacturer: Wurth Elektronik; Capacitance Tolerance: +/-20%; Dissipation Factor: 14%; Endurance: 2000h; Leakage Current: 115.5uA; Ripple Current: 650mA; Technical Reference: ASEF105331M035DVCTEB000; Category: Aluminum Electrolytic Capacitors; Match Code: WCAP-ASLI; ComponentLink1Description: Website Link; ComponentLink1URL: https://www.we-online.com/redexpert/article/865080557015?ad; ComponentLink2Description: Datasheet Link; ComponentLink2URL: https://www.we-online.com/redexpert/spec/865080557015?ad; Mount: Surface Mount; Operating Temperature Max: 105°C; Operating Temperature Min: -55°C; Packaging: Tape and Reel; Height: 10.5mm; Diameter: 10mm; Capacitance: 330uF; Rated Voltage (DC): 35V
footprint WCAP-ASLI_D10H10.5
simulation model 865080557015_330uF
pins: 1 P, 2 N
text: +

## 865080562016
designator C?, comment 470uF  (value not drawn)
WCAP-ASLI Aluminum Electrolytic Capacitor, V-Chip, D12.5 x H14mm, 470uF, 35V; Manufacturer Part Number: 865080562016; Manufacturer: Wurth Elektronik; Capacitance Tolerance: +/-20%; Dissipation Factor: 14%; Endurance: 5000h; Leakage Current: 164.5uA; Ripple Current: 1100mA; Technical Reference: ASEH140471M035DVCTGE000; Category: Aluminum Electrolytic Capacitors; Match Code: WCAP-ASLI; ComponentLink1Description: Website Link; ComponentLink1URL: https://www.we-online.com/redexpert/article/865080562016?ad; ComponentLink2Description: Datasheet Link; ComponentLink2URL: https://www.we-online.com/redexpert/spec/865080562016?ad; Mount: Surface Mount; Operating Temperature Max: 105°C; Operating Temperature Min: -55°C; Packaging: Tape and Reel; Height: 14mm; Diameter: 12.5mm; Capacitance: 470uF; Rated Voltage (DC): 35V
footprint WCAP-ASLI_D12.5H14
simulation model 865080562016_470uF
pins: 1 P, 2 N
text: +

## 865080562017
designator C?, comment 680uF  (value not drawn)
WCAP-ASLI Aluminum Electrolytic Capacitor, V-Chip, D12.5 x H14mm, 680uF, 35V; Manufacturer Part Number: 865080562017; Manufacturer: Wurth Elektronik; Capacitance Tolerance: +/-20%; Dissipation Factor: 14%; Endurance: 5000h; Leakage Current: 238uA; Ripple Current: 1100mA; Technical Reference: ASEH140681M035DVCTGE000; Category: Aluminum Electrolytic Capacitors; Match Code: WCAP-ASLI; ComponentLink1Description: Website Link; ComponentLink1URL: https://www.we-online.com/redexpert/article/865080562017?ad; ComponentLink2Description: Datasheet Link; ComponentLink2URL: https://www.we-online.com/redexpert/spec/865080562017?ad; Mount: Surface Mount; Operating Temperature Max: 105°C; Operating Temperature Min: -55°C; Packaging: Tape and Reel; Height: 14mm; Diameter: 12.5mm; Capacitance: 680uF; Rated Voltage (DC): 35V
footprint WCAP-ASLI_D12.5H14
simulation model 865080562017_680uF
pins: 1 P, 2 N
text: +

## 865080563018
designator C?, comment 1500uF  (value not drawn)
WCAP-ASLI Aluminum Electrolytic Capacitor, V-Chip, D16 x H17mm, 1500uF, 35V; Manufacturer Part Number: 865080563018; Manufacturer: Wurth Elektronik; Capacitance Tolerance: +/-20%; Dissipation Factor: 14%; Endurance: 5000h; Leakage Current: 525uA; Ripple Current: 1250mA; Technical Reference: ASEK170152M035DVCTHE000; Category: Aluminum Electrolytic Capacitors; Match Code: WCAP-ASLI; ComponentLink1Description: Website Link; ComponentLink1URL: https://www.we-online.com/redexpert/article/865080563018?ad; ComponentLink2Description: Datasheet Link; ComponentLink2URL: https://www.we-online.com/redexpert/spec/865080563018?ad; Mount: Surface Mount; Operating Temperature Max: 105°C; Operating Temperature Min: -55°C; Packaging: Tape and Reel; Height: 17mm; Diameter: 16mm; Capacitance: 1500uF; Rated Voltage (DC): 35V
footprint WCAP-ASLI_D16H17
simulation model 865080563018_1.5mF
pins: 1 P, 2 N
text: +

## 865080640001
designator C?, comment 1uF  (value not drawn)
WCAP-ASLI Aluminum Electrolytic Capacitor, V-Chip, D4 x H5.5mm, 1uF, 50V; Manufacturer Part Number: 865080640001; Manufacturer: Wurth Elektronik; Capacitance Tolerance: +/-20%; Dissipation Factor: 12%; Endurance: 2000h; Leakage Current: 3uA; Ripple Current: 55mA; Technical Reference: ASEB055010M050DVCTAB000; Category: Aluminum Electrolytic Capacitors; Match Code: WCAP-ASLI; ComponentLink1Description: Website Link; ComponentLink1URL: https://www.we-online.com/redexpert/article/865080640001?ad; ComponentLink2Description: Datasheet Link; ComponentLink2URL: https://www.we-online.com/redexpert/spec/865080640001?ad; Mount: Surface Mount; Operating Temperature Max: 105°C; Operating Temperature Min: -55°C; Packaging: Tape and Reel; Height: 5.5mm; Diameter: 4mm; Capacitance: 1uF; Rated Voltage (DC): 50V
footprint WCAP-ASLI_D4H5.5
simulation model 865080640001_1uF
pins: 1 P, 2 N
text: +

## 865080640002
designator C?, comment 2.2uF  (value not drawn)
WCAP-ASLI Aluminum Electrolytic Capacitor, V-Chip, D4 x H5.5mm, 2.2uF, 50V; Manufacturer Part Number: 865080640002; Manufacturer: Wurth Elektronik; Capacitance Tolerance: +/-20%; Dissipation Factor: 12%; Endurance: 2000h; Leakage Current: 3uA; Ripple Current: 55mA; Technical Reference: ASEB0552R2M050DVCTAB000; Category: Aluminum Electrolytic Capacitors; Match Code: WCAP-ASLI; ComponentLink1Description: Website Link; ComponentLink1URL: https://www.we-online.com/redexpert/article/865080640002?ad; ComponentLink2Description: Datasheet Link; ComponentLink2URL: https://www.we-online.com/redexpert/spec/865080640002?ad; Mount: Surface Mount; Operating Temperature Max: 105°C; Operating Temperature Min: -55°C; Packaging: Tape and Reel; Height: 5.5mm; Diameter: 4mm; Capacitance: 2.2uF; Rated Voltage (DC): 50V
footprint WCAP-ASLI_D4H5.5
simulation model 865080640002_2.2uF
pins: 1 P, 2 N
text: +

## 865080640003
designator C?, comment 3.3uF  (value not drawn)
WCAP-ASLI Aluminum Electrolytic Capacitor, V-Chip, D4 x H5.5mm, 3.3uF, 50V; Manufacturer Part Number: 865080640003; Manufacturer: Wurth Elektronik; Capacitance Tolerance: +/-20%; Dissipation Factor: 12%; Endurance: 2000h; Leakage Current: 3uA; Ripple Current: 55mA; Technical Reference: ASEB0553R3M050DVCTAB000; Category: Aluminum Electrolytic Capacitors; Match Code: WCAP-ASLI; ComponentLink1Description: Website Link; ComponentLink1URL: https://www.we-online.com/redexpert/article/865080640003?ad; ComponentLink2Description: Datasheet Link; ComponentLink2URL: https://www.we-online.com/redexpert/spec/865080640003?ad; Mount: Surface Mount; Operating Temperature Max: 105°C; Operating Temperature Min: -55°C; Packaging: Tape and Reel; Height: 5.5mm; Diameter: 4mm; Capacitance: 3.3uF; Rated Voltage (DC): 50V
footprint WCAP-ASLI_D4H5.5
simulation model 865080640003_3.3uF
pins: 1 P, 2 N
text: +

## 865080640004
designator C?, comment 4.7uF  (value not drawn)
WCAP-ASLI Aluminum Electrolytic Capacitor, V-Chip, D4 x H5.5mm, 4.7uF, 50V; Manufacturer Part Number: 865080640004; Manufacturer: Wurth Elektronik; Capacitance Tolerance: +/-20%; Dissipation Factor: 12%; Endurance: 2000h; Leakage Current: 3uA; Ripple Current: 55mA; Technical Reference: ASEB0554R7M050DVCTAB000; Category: Aluminum Electrolytic Capacitors; Match Code: WCAP-ASLI; ComponentLink1Description: Website Link; ComponentLink1URL: https://www.we-online.com/redexpert/article/865080640004?ad; ComponentLink2Description: Datasheet Link; ComponentLink2URL: https://www.we-online.com/redexpert/spec/865080640004?ad; Mount: Surface Mount; Operating Temperature Max: 105°C; Operating Temperature Min: -55°C; Packaging: Tape and Reel; Height: 5.5mm; Diameter: 4mm; Capacitance: 4.7uF; Rated Voltage (DC): 50V
footprint WCAP-ASLI_D4H5.5
simulation model 865080640004_4.7uF
pins: 1 P, 2 N
text: +

## 865080642005
designator C?, comment 6.8uF  (value not drawn)
WCAP-ASLI Aluminum Electrolytic Capacitor, V-Chip, D5 x H5.5mm, 6.8uF, 50V; Manufacturer Part Number: 865080642005; Manufacturer: Wurth Elektronik; Capacitance Tolerance: +/-20%; Dissipation Factor: 12%; Endurance: 2000h; Leakage Current: 3.4uA; Ripple Current: 75mA; Technical Reference: ASEC0556R8M050DVCTBB000; Category: Aluminum Electrolytic Capacitors; Match Code: WCAP-ASLI; ComponentLink1Description: Website Link; ComponentLink1URL: https://www.we-online.com/redexpert/article/865080642005?ad; ComponentLink2Description: Datasheet Link; ComponentLink2URL: https://www.we-online.com/redexpert/spec/865080642005?ad; Mount: Surface Mount; Operating Temperature Max: 105°C; Operating Temperature Min: -55°C; Packaging: Tape and Reel; Height: 5.5mm; Diameter: 5mm; Capacitance: 6.8uF; Rated Voltage (DC): 50V
footprint WCAP-ASLI_D5H5.5
simulation model 865080642005_6.8uF
pins: 1 P, 2 N
text: +

## 865080642006
designator C?, comment 10uF  (value not drawn)
WCAP-ASLI Aluminum Electrolytic Capacitor, V-Chip, D5 x H5.5mm, 10uF, 50V; Manufacturer Part Number: 865080642006; Manufacturer: Wurth Elektronik; Capacitance Tolerance: +/-20%; Dissipation Factor: 12%; Endurance: 2000h; Leakage Current: 5uA; Ripple Current: 95mA; Technical Reference: ASEC055100M050DVCTBB000; Category: Aluminum Electrolytic Capacitors; Match Code: WCAP-ASLI; ComponentLink1Description: Website Link; ComponentLink1URL: https://www.we-online.com/redexpert/article/865080642006?ad; ComponentLink2Description: Datasheet Link; ComponentLink2URL: https://www.we-online.com/redexpert/spec/865080642006?ad; Mount: Surface Mount; Operating Temperature Max: 105°C; Operating Temperature Min: -55°C; Packaging: Tape and Reel; Height: 5.5mm; Diameter: 5mm; Capacitance: 10uF; Rated Voltage (DC): 50V
footprint WCAP-ASLI_D5H5.5
simulation model 865080642006_10uF
pins: 1 P, 2 N
text: +

## 865080643007
designator C?, comment 15uF  (value not drawn)
WCAP-ASLI Aluminum Electrolytic Capacitor, V-Chip, D6.3 x H5.5mm, 15uF, 50V; Manufacturer Part Number: 865080643007; Manufacturer: Wurth Elektronik; Capacitance Tolerance: +/-20%; Dissipation Factor: 12%; Endurance: 2000h; Leakage Current: 7.5uA; Ripple Current: 140mA; Technical Reference: ASED055150M050DVCTBB000; Category: Aluminum Electrolytic Capacitors; Match Code: WCAP-ASLI; ComponentLink1Description: Website Link; ComponentLink1URL: https://www.we-online.com/redexpert/article/865080643007?ad; ComponentLink2Description: Datasheet Link; ComponentLink2URL: https://www.we-online.com/redexpert/spec/865080643007?ad; Mount: Surface Mount; Operating Temperature Max: 105°C; Operating Temperature Min: -55°C; Packaging: Tape and Reel; Height: 5.5mm; Diameter: 6.3mm; Capacitance: 15uF; Rated Voltage (DC): 50V
footprint WCAP-ASLI_D6.3H5.5
simulation model 865080643007_15uF
pins: 1 P, 2 N
text: +

## 865080643008
designator C?, comment 22uF  (value not drawn)
WCAP-ASLI Aluminum Electrolytic Capacitor, V-Chip, D6.3 x H5.5mm, 22uF, 50V; Manufacturer Part Number: 865080643008; Manufacturer: Wurth Elektronik; Capacitance Tolerance: +/-20%; Dissipation Factor: 12%; Endurance: 2000h; Leakage Current: 11uA; Ripple Current: 150mA; Technical Reference: ASED055220M050DVCTBB000; Category: Aluminum Electrolytic Capacitors; Match Code: WCAP-ASLI; ComponentLink1Description: Website Link; ComponentLink1URL: https://www.we-online.com/redexpert/article/865080643008?ad; ComponentLink2Description: Datasheet Link; ComponentLink2URL: https://www.we-online.com/redexpert/spec/865080643008?ad; Mount: Surface Mount; Operating Temperature Max: 105°C; Operating Temperature Min: -55°C; Packaging: Tape and Reel; Height: 5.5mm; Diameter: 6.3mm; Capacitance: 22uF; Rated Voltage (DC): 50V
footprint WCAP-ASLI_D6.3H5.5
simulation model 865080643008_22uF
pins: 1 P, 2 N
text: +

## 865080645009
designator C?, comment 27uF  (value not drawn)
WCAP-ASLI Aluminum Electrolytic Capacitor, V-Chip, D6.3 x H7.7mm, 27uF, 50V; Manufacturer Part Number: 865080645009; Manufacturer: Wurth Elektronik; Capacitance Tolerance: +/-20%; Dissipation Factor: 12%; Endurance: 2000h; Leakage Current: 13.5uA; Ripple Current: 180mA; Technical Reference: ASED077270M050DVCTCB000; Category: Aluminum Electrolytic Capacitors; Match Code: WCAP-ASLI; ComponentLink1Description: Website Link; ComponentLink1URL: https://www.we-online.com/redexpert/article/865080645009?ad; ComponentLink2Description: Datasheet Link; ComponentLink2URL: https://www.we-online.com/redexpert/spec/865080645009?ad; Mount: Surface Mount; Operating Temperature Max: 105°C; Operating Temperature Min: -55°C; Packaging: Tape and Reel; Height: 7.7mm; Diameter: 6.3mm; Capacitance: 27uF; Rated Voltage (DC): 50V
footprint WCAP-ASLI_D6.3H7.7
simulation model 865080645009_27uF
pins: 1 P, 2 N
text: +

## 865080645010
designator C?, comment 33uF  (value not drawn)
WCAP-ASLI Aluminum Electrolytic Capacitor, V-Chip, D6.3 x H7.7mm, 33uF, 50V; Manufacturer Part Number: 865080645010; Manufacturer: Wurth Elektronik; Capacitance Tolerance: +/-20%; Dissipation Factor: 12%; Endurance: 2000h; Leakage Current: 16.5uA; Ripple Current: 190mA; Technical Reference: ASED077330M050DVCTCB000; Category: Aluminum Electrolytic Capacitors; Match Code: WCAP-ASLI; ComponentLink1Description: Website Link; ComponentLink1URL: https://www.we-online.com/redexpert/article/865080645010?ad; ComponentLink2Description: Datasheet Link; ComponentLink2URL: https://www.we-online.com/redexpert/spec/865080645010?ad; Mount: Surface Mount; Operating Temperature Max: 105°C; Operating Temperature Min: -55°C; Packaging: Tape and Reel; Height: 7.7mm; Diameter: 6.3mm; Capacitance: 33uF; Rated Voltage (DC): 50V
footprint WCAP-ASLI_D6.3H7.7
simulation model 865080645010_33uF
pins: 1 P, 2 N
text: +

## 865080645012
designator C?, comment 47uF  (value not drawn)
WCAP-ASLI Aluminum Electrolytic Capacitor, V-Chip, D6.3 x H7.7mm, 47uF, 50V; Manufacturer Part Number: 865080645012; Manufacturer: Wurth Elektronik; Capacitance Tolerance: +/-20%; Dissipation Factor: 12%; Endurance: 2000h; Leakage Current: 23.5uA; Ripple Current: 230mA; Technical Reference: ASED077470M050DVCTCB000; Category: Aluminum Electrolytic Capacitors; Match Code: WCAP-ASLI; ComponentLink1Description: Website Link; ComponentLink1URL: https://www.we-online.com/redexpert/article/865080645012?ad; ComponentLink2Description: Datasheet Link; ComponentLink2URL: https://www.we-online.com/redexpert/spec/865080645012?ad; Mount: Surface Mount; Operating Temperature Max: 105°C; Operating Temperature Min: -55°C; Packaging: Tape and Reel; Height: 7.7mm; Diameter: 6.3mm; Capacitance: 47uF; Rated Voltage (DC): 50V
footprint WCAP-ASLI_D6.3H7.7
simulation model 865080645012_47uF
pins: 1 P, 2 N
text: +

## 865080649011
designator C?, comment 33uF  (value not drawn)
WCAP-ASLI Aluminum Electrolytic Capacitor, V-Chip, D8 x H6.5mm, 33uF, 50V; Manufacturer Part Number: 865080649011; Manufacturer: Wurth Elektronik; Capacitance Tolerance: +/-20%; Dissipation Factor: 12%; Endurance: 2000h; Leakage Current: 16.5uA; Ripple Current: 200mA; Technical Reference: ASEE065330M050DVCTBB000; Category: Aluminum Electrolytic Capacitors; Match Code: WCAP-ASLI; ComponentLink1Description: Website Link; ComponentLink1URL: https://www.we-online.com/redexpert/article/865080649011?ad; ComponentLink2Description: Datasheet Link; ComponentLink2URL: https://www.we-online.com/redexpert/spec/865080649011?ad; Mount: Surface Mount; Operating Temperature Max: 105°C; Operating Temperature Min: -55°C; Packaging: Tape and Reel; Height: 6.5mm; Diameter: 8mm; Capacitance: 33uF; Rated Voltage (DC): 50V
footprint WCAP-ASLI_D8H6.5
simulation model 865080649011_33uF
pins: 1 P, 2 N
text: +

## 865080649013
designator C?, comment 47uF  (value not drawn)
WCAP-ASLI Aluminum Electrolytic Capacitor, V-Chip, D8 x H6.5mm, 47uF, 50V; Manufacturer Part Number: 865080649013; Manufacturer: Wurth Elektronik; Capacitance Tolerance: +/-20%; Dissipation Factor: 12%; Endurance: 2000h; Leakage Current: 23.5uA; Ripple Current: 240mA; Technical Reference: ASEE065470M050DVCTBB000; Category: Aluminum Electrolytic Capacitors; Match Code: WCAP-ASLI; ComponentLink1Description: Website Link; ComponentLink1URL: https://www.we-online.com/redexpert/article/865080649013?ad; ComponentLink2Description: Datasheet Link; ComponentLink2URL: https://www.we-online.com/redexpert/spec/865080649013?ad; Mount: Surface Mount; Operating Temperature Max: 105°C; Operating Temperature Min: -55°C; Packaging: Tape and Reel; Height: 6.5mm; Diameter: 8mm; Capacitance: 47uF; Rated Voltage (DC): 50V
footprint WCAP-ASLI_D8H6.5
simulation model 865080649013_47uF
pins: 1 P, 2 N
text: +

## 865080653014
designator C?, comment 56uF  (value not drawn)
WCAP-ASLI Aluminum Electrolytic Capacitor, V-Chip, D8 x H10.5mm, 56uF, 50V; Manufacturer Part Number: 865080653014; Manufacturer: Wurth Elektronik; Capacitance Tolerance: +/-20%; Dissipation Factor: 12%; Endurance: 2000h; Leakage Current: 28uA; Ripple Current: 300mA; Technical Reference: ASEE105560M050DVCTEB000; Category: Aluminum Electrolytic Capacitors; Match Code: WCAP-ASLI; ComponentLink1Description: Website Link; ComponentLink1URL: https://www.we-online.com/redexpert/article/865080653014?ad; ComponentLink2Description: Datasheet Link; ComponentLink2URL: https://www.we-online.com/redexpert/spec/865080653014?ad; Mount: Surface Mount; Operating Temperature Max: 105°C; Operating Temperature Min: -55°C; Packaging: Tape and Reel; Height: 10.5mm; Diameter: 8mm; Capacitance: 56uF; Rated Voltage (DC): 50V
footprint WCAP-ASLI_D8H10.5
simulation model 865080653014_56uF
pins: 1 P, 2 N
text: +

## 865080653015
designator C?, comment 68uF  (value not drawn)
WCAP-ASLI Aluminum Electrolytic Capacitor, V-Chip, D8 x H10.5mm, 68uF, 50V; Manufacturer Part Number: 865080653015; Manufacturer: Wurth Elektronik; Capacitance Tolerance: +/-20%; Dissipation Factor: 12%; Endurance: 2000h; Leakage Current: 34uA; Ripple Current: 320mA; Technical Reference: ASEE105680M050DVCTEB000; Category: Aluminum Electrolytic Capacitors; Match Code: WCAP-ASLI; ComponentLink1Description: Website Link; ComponentLink1URL: https://www.we-online.com/redexpert/article/865080653015?ad; ComponentLink2Description: Datasheet Link; ComponentLink2URL: https://www.we-online.com/redexpert/spec/865080653015?ad; Mount: Surface Mount; Operating Temperature Max: 105°C; Operating Temperature Min: -55°C; Packaging: Tape and Reel; Height: 10.5mm; Diameter: 8mm; Capacitance: 68uF; Rated Voltage (DC): 50V
footprint WCAP-ASLI_D8H10.5
simulation model 865080653015_68uF
pins: 1 P, 2 N
text: +

## 865080653016
designator C?, comment 100uF  (value not drawn)
WCAP-ASLI Aluminum Electrolytic Capacitor, V-Chip, D8 x H10.5mm, 100uF, 50V; Manufacturer Part Number: 865080653016; Manufacturer: Wurth Elektronik; Capacitance Tolerance: +/-20%; Dissipation Factor: 12%; Endurance: 2000h; Leakage Current: 50uA; Ripple Current: 350mA; Technical Reference: ASEE105101M050DVCTEB000; Category: Aluminum Electrolytic Capacitors; Match Code: WCAP-ASLI; ComponentLink1Description: Website Link; ComponentLink1URL: https://www.we-online.com/redexpert/article/865080653016?ad; ComponentLink2Description: Datasheet Link; ComponentLink2URL: https://www.we-online.com/redexpert/spec/865080653016?ad; Mount: Surface Mount; Operating Temperature Max: 105°C; Operating Temperature Min: -55°C; Packaging: Tape and Reel; Height: 10.5mm; Diameter: 8mm; Capacitance: 100uF; Rated Voltage (DC): 50V
footprint WCAP-ASLI_D8H10.5
simulation model 865080653016_100uF
pins: 1 P, 2 N
text: +